# EAGLE library part MCP1826T-5002E_DC (library SamacSys_Parts)
LDO Regulator 1A 5.0V PG SOT223-5 MCP1826T-5002E/DC, Low Dropout Voltage Regulator, 1A, 5 V +/-2%, 2.3 6 Vin, 6-Pin SOT-223 Source: Datasheet <https://componentsearchengine.com/Datasheets/1/MCP1826T-5002E_DC.pdf>
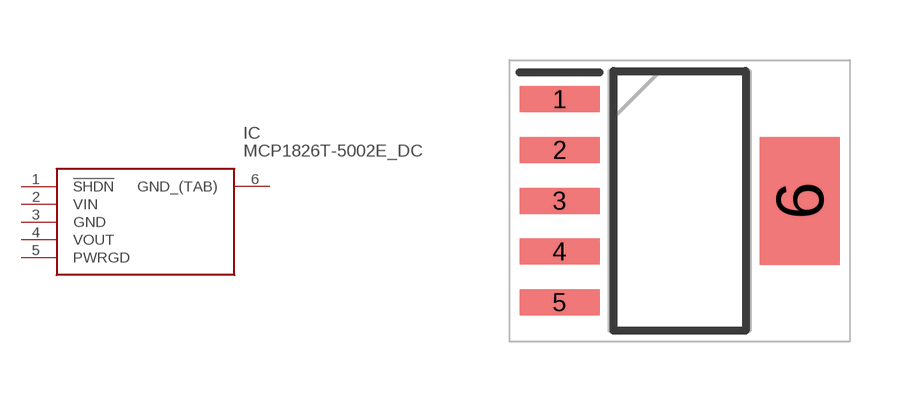
[diagram p4: symbol with the pads of SOT127P706X180-6N; footprint SOT127P706X180-6N]

Designator prefix IC

## MCP1826T-5002E_DC (DESCRIPTION: LDO Regulator 1A 5.0V PG SOT223-5 MCP1826T-5002E/DC, Low Dropout Voltage Regulator, 1A, 5 V +/-2%, 2.3 6 Vin, 6-Pin SOT-223; HEIGHT: 1.8mm; MANUFACTURER_NAME: Microchip; MANUFACTURER_PART_NUMBER: MCP1826T-5002E/DC; MOUSER_PART_NUMBER: 579-MCP1826T-5002EDC; MOUSER_PRICE-STOCK: https://www.mouser.com/Search/Refine.aspx?Keyword=579-MCP1826T-5002EDC)  [SOT127P706X180-6N]
1  !SHDN
2  VIN  in
3  GND  pwr
4  VOUT  out
5  PWRGD
6  GND_(TAB)  pwr

## Footprint SOT127P706X180-6N (pad centres in mm)
5-Lead(DC)SOT-223
smd 2 x 0.65: 1 -3,2.54; 2 -3,1.27; 3 -3,0; 4 -3,-1.27; 5 -3,-2.54
smd 2 x 3.2: 6 3,0